# EAGLE library part T-2042 (library dec-con)
T-2042 Transformer
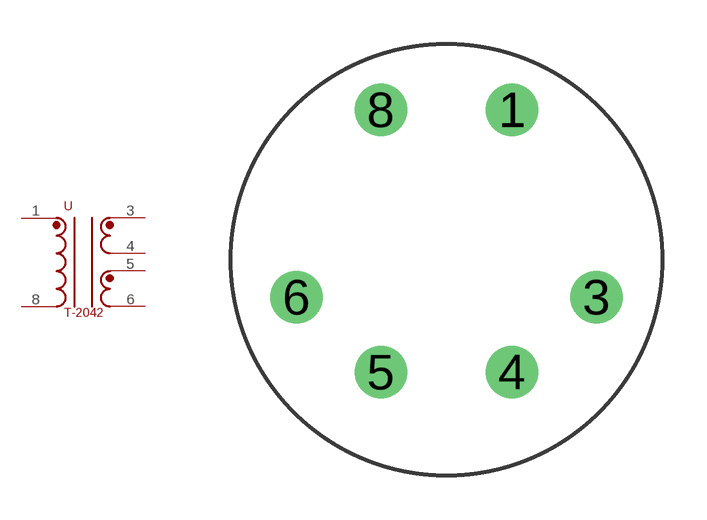
[diagram p102: symbol with the pads of TRANSFORMER6C; footprint TRANSFORMER6C]

Designator prefix -

## T-2042  [TRANSFORMER6C]
1  3  pas
3  2  pas
4  5  pas
5  1  pas
6  6  pas
8  4  pas

## Footprint TRANSFORMER6C (pad centres in mm)
Transformer, 1-8 with 2 and 7 missing.
drill 0.813 pad 1.778: 1 2.223,5.08; 3 5.08,-1.27; 4 2.223,-3.81; 5 -2.223,-3.81; 6 -5.08,-1.27; 8 -2.223,5.08